# Altium schematic symbol library Conn_TE_87224-6_eec.SchLib: 1 symbol
Pins are listed as number, name and electrical type; pins without a type are passive.

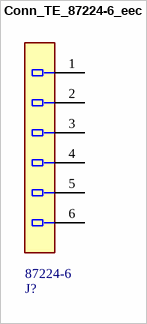
[diagram p0: symbol Conn_TE_87224-6_eec]

## Conn_TE_87224-6_eec
designator J?  Part Number: 87224-6
CONN HEADER VERT .100 6POS 15AU; Manufacturer: TE; number of positions: 6; helpURL: https://upverter.com/upn/revision/5cdf6967ba71a8d5/; ComponentLink2Description: Datasheet; Temperature: -65°C to +105°C; Package: CONN_PTH_HDR6; Supplier 2: Mouser; Price: 2.04212257321; Supplier 1: Digi-Key; ComponentLink1URL: https://upverter.com/upn/revision/5cdf6967ba71a8d5/; Supplier Part Number 2: 571-872246; Supplier Part Number 1: A26551-ND; ComponentLink1Description: Upverter; ComponentLink2URL: http://www.te.com/commerce/DocumentDelivery/DDEController?Action=srchrtrv&DocNm=87224&DocType=Customer+Drawing&DocLang=English; RoHS: TRUE; Mouser Part Number: 571-872246; Ipc Land Pattern Name: HDRV6W64P254_1X6_1483X64X229; Temperature Range High: +105°C; Digikey Description: CONN HEADER VERT .100 6POS 15AU; Digikey Part Number: A26551-ND; Lead Free: yes; Temperature Range Low: -65°C
footprint TE_87224-6_0
pins: 1, 2, 3, 4, 5, 6